# Altium footprint library Passive.PcbLib: 9 footprints
Each footprint in its own frame and in the unit in brackets; x right, y up, seen from the top. Pads: shape width x height; smd on the part's side, far side on the other; paste and mask are expansions set on the pad; w line width, h text height; cw(c..) or ccw(c..) is an arc to the next point about the centre after c.
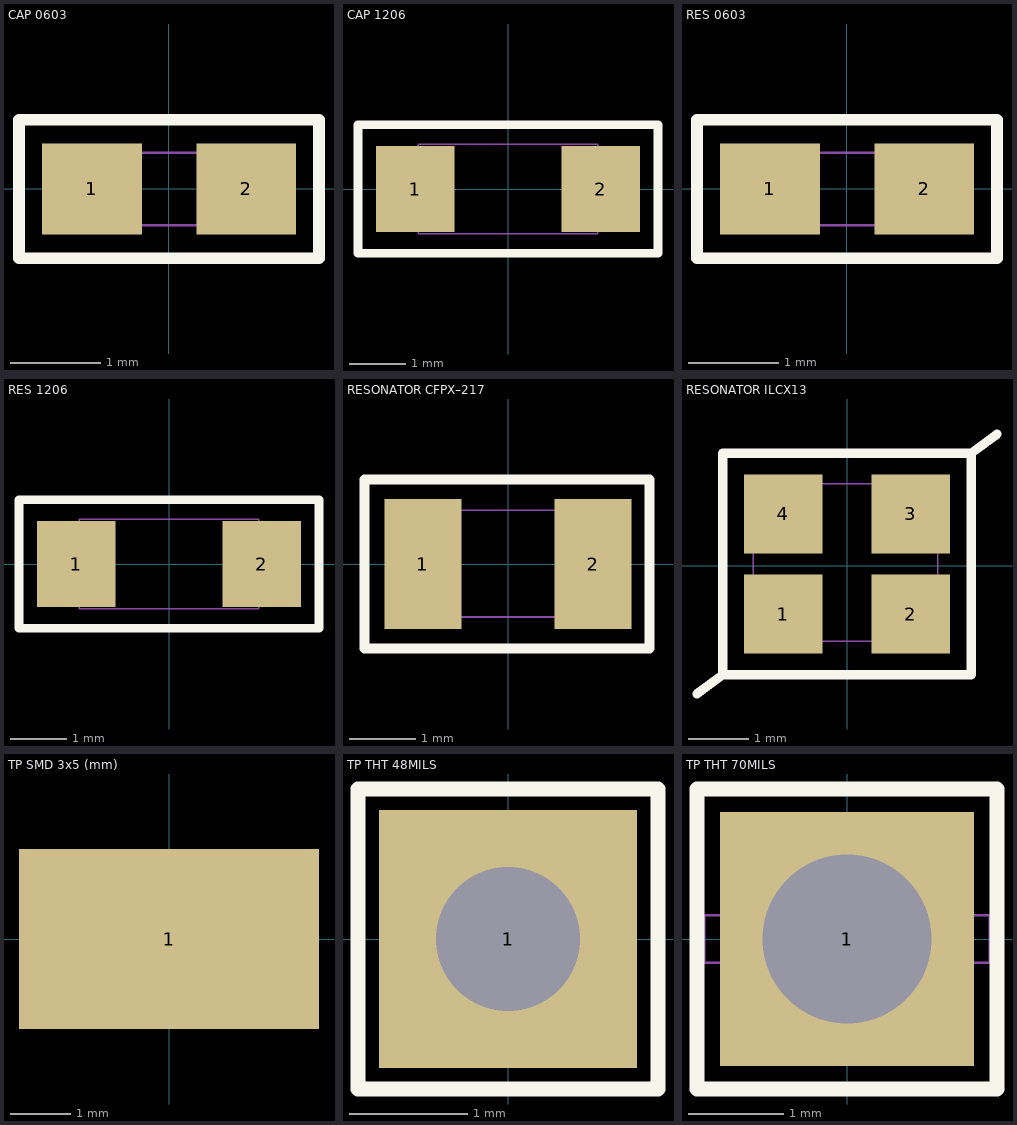
[diagram p0: the footprints below, top view; thin cyan lines are the x and y axes]

## CAP 0603 [mm] "Chip Capacitor, 2-Leads"
height 0.8
pads (2):
  rect 1.1x1 smd: 1(-0.85,0) 2(0.85,0)
Top Overlay:
  lines w0.127: -1.651,-0.762 -1.651,0.762 1.651,0.762 1.651,-0.762 -1.651,-0.762
Mechanical 13:
  lines w0.025: -0.8,-0.4 -0.8,0.4 0.8,0.4 0.8,-0.4 -0.8,-0.4
3D body: height 0.8, standoff 0, extent -0.5,-0.4 0.5,0.4
3D body: height 0.8, standoff 0, extent -0.8,-0.4 -0.5,0.4
3D body: height 0.8, standoff 0, extent 0.5,-0.4 0.8,0.4

## CAP 1206 [mil] "Chip Capacitor, 2-Leads"
height 39.37
pads (2):
  rect 55x60 smd: 1(-65,0) 2(65,0)
Top Overlay:
  lines w6: -105,-45 -105,45 105,45 105,-45 -105,-45
Mechanical 13:
  lines w1: -62.99,-31.5 62.99,-31.5 62.99,31.5 -62.99,31.5 -62.99,-31.5
3D body: height 39.37, standoff 0, extent -47.24,-31.5 43.31,31.5
3D body: height 39.37, standoff 0, extent -62.99,-31.5 -47.24,31.5
3D body: height 39.37, standoff 0, extent 43.31,-31.5 62.99,31.5

## RES 0603 [mm] "Chip Resistor, 2-Leads"
height 0.45
pads (2):
  rect 1.1x1 smd: 1(-0.85,0) 2(0.85,0)
Top Overlay:
  lines w0.127: -1.651,-0.762 -1.651,0.762 1.651,0.762 1.651,-0.762 -1.651,-0.762
Mechanical 13:
  lines w0.025: -0.8,-0.4 -0.8,0.4 0.8,0.4 0.8,-0.4 -0.8,-0.4
3D body: height 0.35, standoff 0, extent -0.8,-0.4 -0.5,0.4
3D body: height 0.35, standoff 0, extent 0.5,-0.4 0.8,0.4
3D body: height 0.35, standoff 0, extent -0.5,-0.4 0.5,0.4

## RES 1206 [mil] "Chip Resistor, 2-Leads"
height 17.72
pads (2):
  rect 55x60 smd: 1(-65,0) 2(65,0)
Top Overlay:
  lines w6: -105,-45 -105,45 105,45 105,-45 -105,-45
Mechanical 13:
  lines w1: -62.99,-31.5 62.99,-31.5 62.99,31.5 -62.99,31.5 -62.99,-31.5
3D body: height 21.65, standoff 0, extent -47.24,-31.5 43.31,31.5
3D body: height 21.65, standoff 0, extent -62.99,-31.5 -47.24,31.5
3D body: height 21.65, standoff 0, extent 43.31,-31.5 62.99,31.5

## RESONATOR CFPX–217 [mm] "RESONATOR, CFPX–217, 32k"
height 0.45
pads (2):
  rect 1.15x1.95 smd: 1(-1.275,0) 2(1.275,0)
Top Overlay:
  lines w0.152: -2.15,-1.27 -2.15,1.27 1.079,1.27 2.125,1.27 2.125,-1.27 -2.15,-1.27
Mechanical 13:
  lines w0.025: -1.578,-0.796 1.622,-0.796 1.622,0.804 -1.578,0.804 -1.578,-0.796
3D body: height 0.55, standoff 0, extent -1.575,-0.796 1.625,0.804

## RESONATOR ILCX13 [mm] "RESONATOR, ILCX13, 20MHz"
height 0.45
pads (4):
  rect 1.3x1.3 smd: 1(-1.05,-0.8) 2(1.05,-0.8) 3(1.05,0.85) 4(-1.05,0.85)
Top Overlay:
  lines w0.152: -2.474,-2.118 -2.05,-1.8 ; 2.474,2.168 2.05,1.85 ; -2.05,-1.8 -2.05,1.85 2.05,1.85 ; -2.05,-1.8 2.05,-1.8 2.05,1.85
Mechanical 13:
  lines w0.025: -1.55,-1.25 1.5,-1.25 1.5,1.35 0.737,1.35 -0.787,1.35 -1.55,1.35 -1.55,-1.25
3D body: height 0.55, standoff 0, extent -1.55,-1.25 1.5,1.35

## TP SMD 3x5 (mm) [mm]
pads (1):
  rect 5x3 smd: 1(0,0)

## TP THT 48MILS [mil]
pads (1):
  rect 86x86 hole 48: 1(0,0)
Top Overlay:
  lines w5: -50,-50 50,-50 50,50 -50,50 -50,-50

## TP THT 70MILS [mil]
height 275.59
pads (1):
  rect 105x105 hole 70: 1(0,0)
Top Overlay:
  lines w6: -62,-62 -62,15.94 -62,62 62,62 62,-62 -62,-62
Mechanical 1:
  lines w1: -59.06,-9.84 -59.06,9.84 59.06,9.84 59.06,-9.84 -59.06,-9.84
3D body: height 169.29, standoff 0, extent -59.06,-9.84 59.06,9.84